# Altium schematic symbol library SnapEDAsch.SchLib: 1 symbol
Pins are listed as number, name and electrical type; pins without a type are passive.

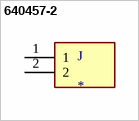
[diagram p0: symbol 640457-2]

## 640457-2
designator J
Header, Friction Lock; MTA-100; 2; 250 VAC; Polyester; Tin; Copper Alloy; Tin; Product_Type: Connector; Number_of_Positions: 2; MP: 640457-2; MF: TE Connectivity; Centerline_Pitch: 2.54 mm[.1 in]; Package: None; Digi-Key_Purchase_URL: https://www.digikey.com/product-detail/en/te-connectivity-amp-connectors/640457-2/A1926-ND/109016?utm_source=snapeda&utm_medium=aggregator&utm_campaign=symbol; Digi-Key_Part_Number: A1926-ND; SnapEDA_Link: https://www.snapeda.com/parts/640457-2/TE%20Connectivity%20AMP%20Connectors/view-part/532921/?ref=snap; EU_RoHS_Compliance: Compliant; TE_purchase_URL: https://www.te.com/usa-en/product-640457-2.html?te_bu=Cor&te_type=disp&te_campaign=seda_glo_cor-seda-global-disp-prtnr-fy19-seda-model-bom-cta_sma-317_1&elqCampaignId=32493; Value: *
footprint TE_640457-2
pins: 1, 2